# Altium footprint library EPCOS.PcbLib: 1 footprints
Each footprint in its own frame and in the unit in brackets; x right, y up, seen from the top. Pads: shape width x height; smd on the part's side, far side on the other; paste and mask are expansions set on the pad; w line width, h text height; cw(c..) or ccw(c..) is an arc to the next point about the centre after c.
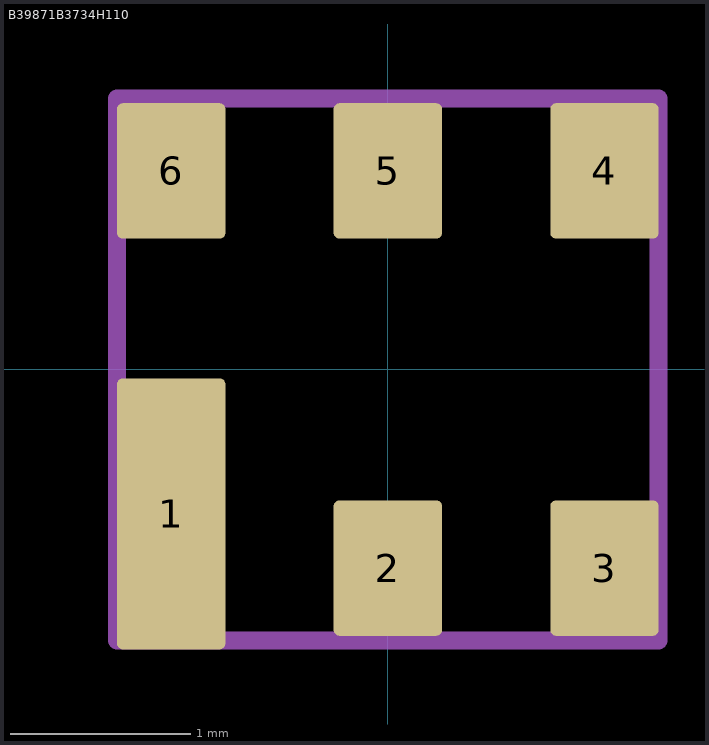
[diagram p0: the footprint, top view; thin cyan lines are the x and y axes]

## B39871B3734H110 [mm] "B39871B3734H110"
height 1
pads (6):
  rrect10% 0.6x1.5 smd: 1(-1.2,-0.8)
  rrect10% 0.6x0.75 smd: 2(0,-1.1) 3(1.2,-1.1) 4(1.2,1.1) 5(0,1.1) 6(-1.2,1.1)
Mechanical 1:
  lines w0.1: -1.5,-1.5 -1.5,1.5 1.5,1.5 1.5,-1.5 -1.5,-1.5